# EAGLE library part SN74HC4852PWR (library SN74HC4852PWR)
Texas Instruments SN74HC4852PWR, Multiplexer/Demultiplexer Dual 4:1, 3 V, 5 V, 16-Pin TSSOP Source: Datasheet <http://www.ti.com/lit/gpn/sn74hc4852>
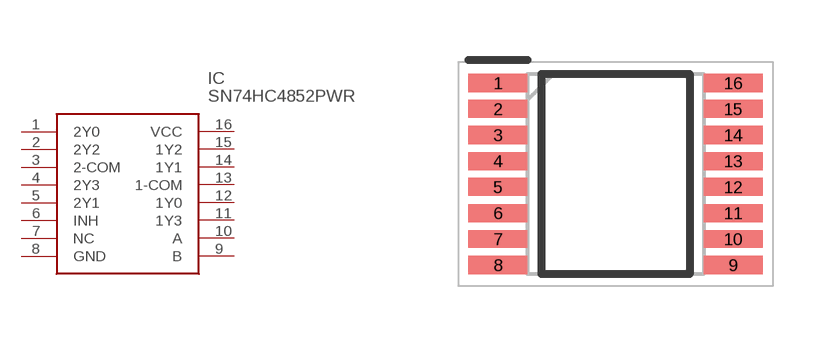
[diagram p0: symbol with the pads of SOP65P640X120-16N; footprint SOP65P640X120-16N]

Designator prefix IC

## SN74HC4852PWR (Description: Texas Instruments SN74HC4852PWR, Multiplexer/Demultiplexer Dual 4:1, 3 V, 5 V, 16-Pin TSSOP; Height: 1.2mm; Manufacturer_Name: Texas Instruments; Manufacturer_Part_Number: SN74HC4852PWR; RS_Part_Number: 6622619; RS_Price/Stock: http://uk.rs-online.com/web/p/products/6622619)  [SOP65P640X120-16N]
1  2Y0  in
2  2Y2  in
3  2-COM  in
4  2Y3  in
5  2Y1  in
6  INH  in
7  NC  in
8  GND  in
9  B  in
10  A  in
11  1Y3  in
12  1Y0  in
13  1-COM  in
14  1Y1  in
15  1Y2  in
16  VCC  in

## Footprint SOP65P640X120-16N (pad centres in mm)
PW (R-PDSO-G16)
smd 1.475 x 0.45: 1 -2.938,2.275; 2 -2.938,1.625; 3 -2.938,0.975; 4 -2.938,0.325; 5 -2.938,-0.325; 6 -2.938,-0.975; 7 -2.938,-1.625; 8 -2.938,-2.275; 9 2.938,-2.275; 10 2.938,-1.625; 11 2.938,-0.975; 12 2.938,-0.325; 13 2.938,0.325; 14 2.938,0.975; 15 2.938,1.625; 16 2.938,2.275